# EAGLE library part LTC3112 (library PowerProducts)
LT-Spice library generated with : ltspice.ulp from: D:/Program Files (x86)/LTC/LTspiceIV/lib/sym/PowerProducts/LTC3113*.asy at 07.10.2012 17:16:26
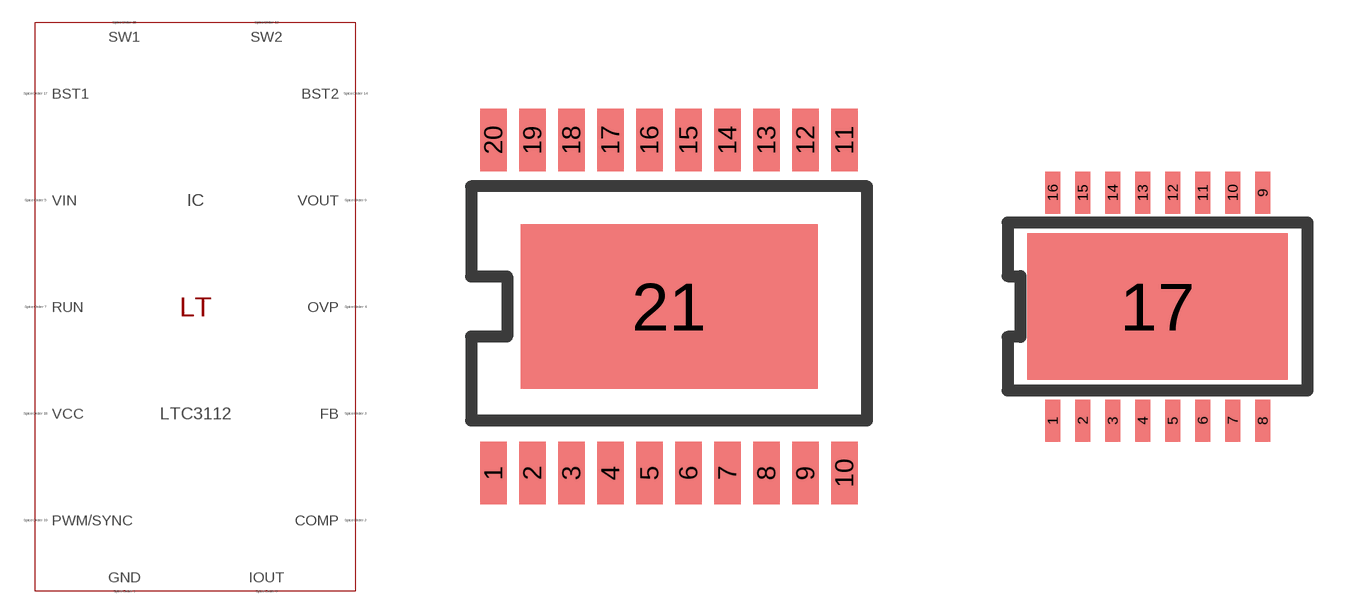
[diagram p120: symbol with the pads of TSSOP20CA(FE); footprints TSSOP20CA(FE), DFN16(DHD)]

Designator prefix IC

## LTC3112FE (SPICEMODEL: LTC3112.sub; SPICEPREFIX: X; VALUE2: LTC3112)  [TSSOP20CA(FE)]
1  GND  pas
2  COMP  pas
3  FB  pas
4  OVP  pas
5  VIN  pas
6  VIN  pas
7  RUN  pas
8  IOUT  pas
9  VOUT  pas
10  GND  pas
11  GND  pas
12  SW2  pas
13  SW2  pas
14  BST2  pas
15  SW1  pas
16  SW1  pas
17  BST1  pas
18  VCC  pas
19  PWM/SYNC  pas
20  GND  pas
21  GND  pas

## LTC3112 (SPICEMODEL: LTC3112.sub; SPICEPREFIX: X; VALUE2: LTC3112)  [DFN16(DHD)]
1  COMP  pas
2  FB  pas
3  OVP  pas
4  VIN  pas
5  VIN  pas
6  RUN  pas
7  IOUT  pas
8  VOUT  pas
9  SW2  pas
10  SW2  pas
11  BST2  pas
12  SW1  pas
13  SW1  pas
14  BST1  pas
15  VCC  pas
16  PWM/SYNC  pas
17  GND  pas

## Footprint TSSOP20CA(FE) (pad centres in mm)
Package generated from: TSSOP20CA(FE).asc (!PADS-POWERPCB-V5.0-BASIC! DESIGN DATABASE ASCII FILE 1.0) with :import-pads-powerpcb-v5.ulp Version 1.0.1 at 04.10.2012 14:11:40
smd 0.66 x 1.575: 1 -4.388,-4.162; 2 -3.413,-4.162; 3 -2.438,-4.162; 4 -1.462,-4.162; 5 -0.487,-4.162; 6 0.487,-4.162; 7 1.462,-4.162; 8 2.438,-4.162; 9 3.413,-4.162; 10 4.388,-4.162; 11 4.388,4.162; 12 3.413,4.162; 13 2.438,4.162; 14 1.462,4.162; 15 0.487,4.162; 16 -0.487,4.162; 17 -1.462,4.162; 18 -2.438,4.162; 19 -3.413,4.162; 20 -4.388,4.162
smd 7.425 x 4.11: 21 0,0

## Footprint DFN16(DHD) (pad centres in mm)
Package generated from: DFN16(DHD).asc (!PADS-POWERPCB-V5.0-BASIC! DESIGN DATABASE ASCII FILE 1.0) with :import-pads-powerpcb-v5.ulp Version 1.0.1 at 04.10.2012 14:11:17
smd 0.375 x 1.05: 1 -2.625,-2.85; 2 -1.875,-2.85; 3 -1.125,-2.85; 4 -0.375,-2.85; 5 0.375,-2.85; 6 1.125,-2.85; 7 1.875,-2.85; 8 2.625,-2.85; 9 2.625,2.85; 10 1.875,2.85; 11 1.125,2.85; 12 0.375,2.85; 13 -0.375,2.85; 14 -1.125,2.85; 15 -1.875,2.85; 16 -2.625,2.85
smd 6.51 x 3.66: 17 0,0